# Altium integrated library NSC Audio.IntLib: 301 symbols (part 3 of 8)
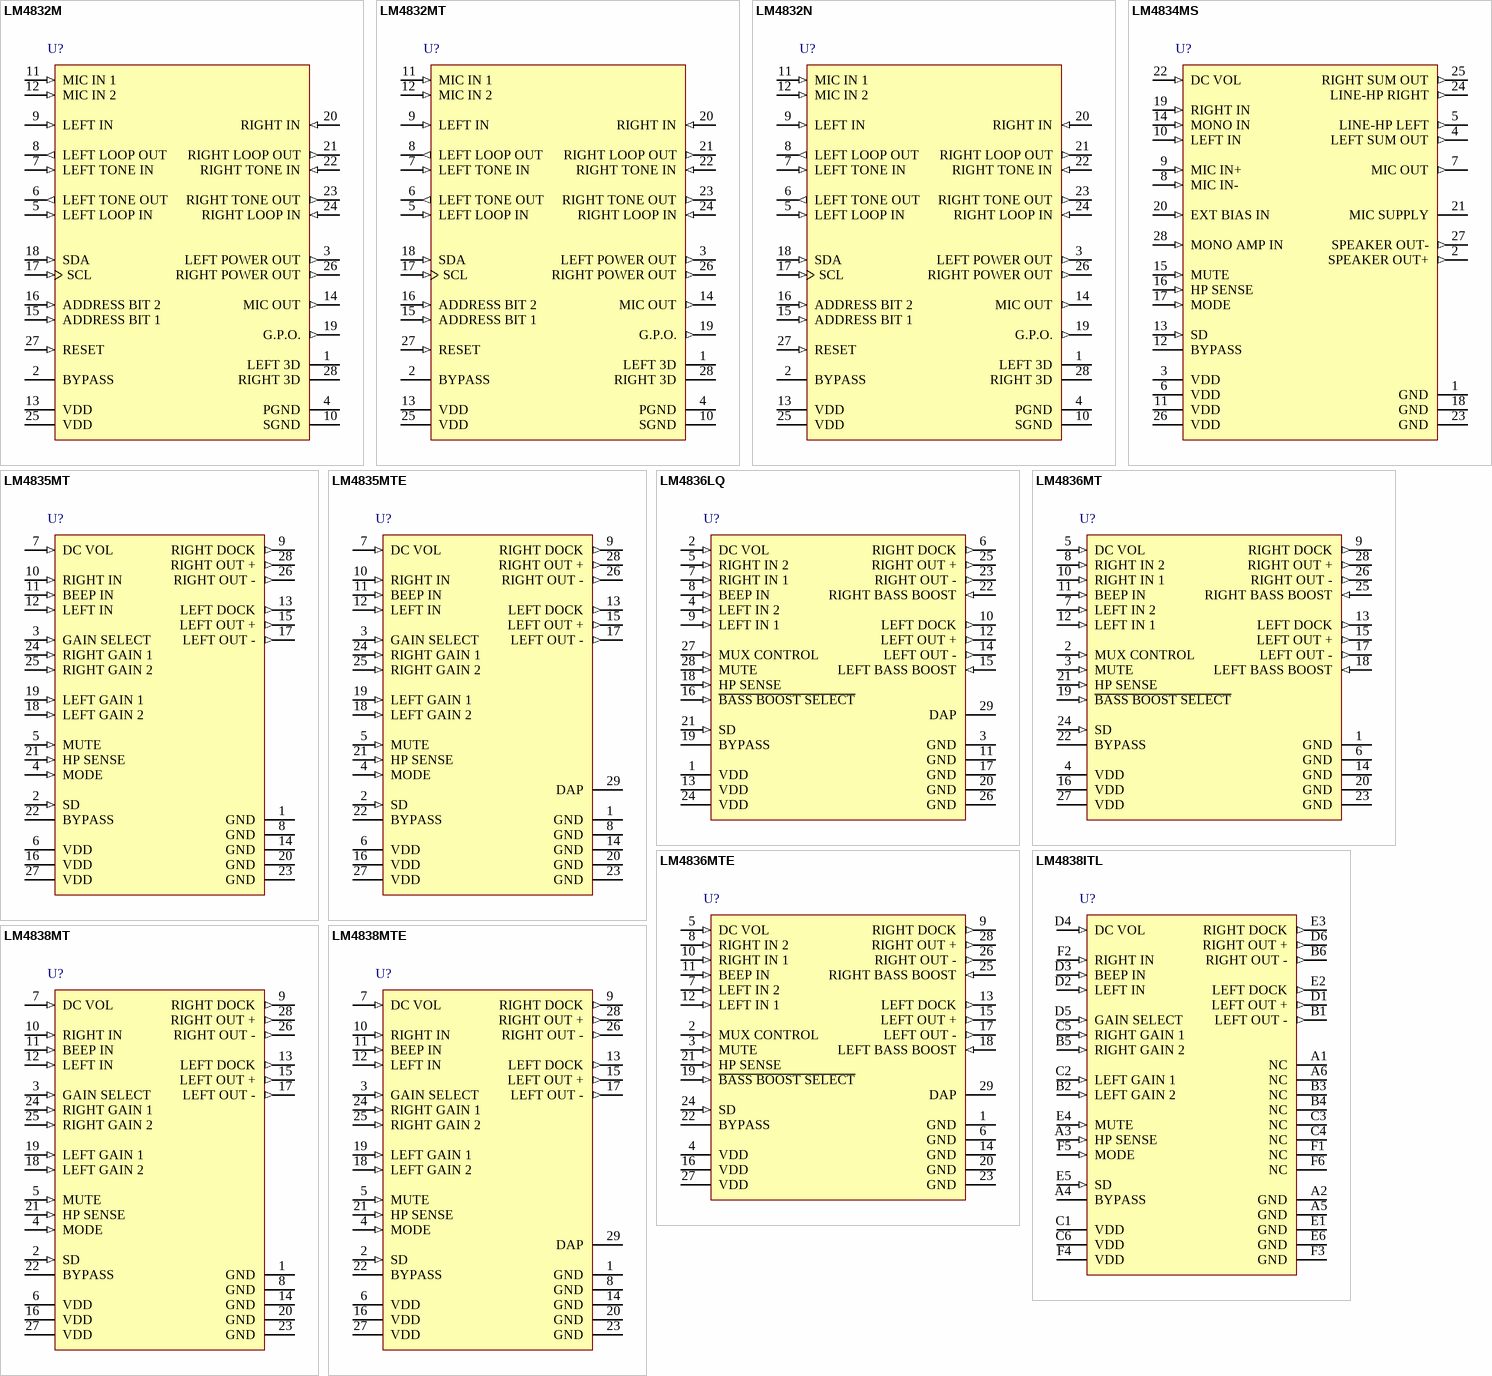
[diagram p14: symbols LM4832M to LM4838MTE]

## LM4834MS
designator U?
Boomer 1.75W Audio Power Amplifier with DC Volume Control and Microphone Preamp; PartNumber: LM4834MS; Manufacturer: National Semiconductor; CompType: Audio IC; PackageTopMarking: NSUZXYTT*LM4834MS; Published: 4-Dec-2008; DatasheetVersion: Aug-2000; PackageVersion: revB, Jan-2000; PackageReference: MSA28; PackageDescription: Molded SSOP, 5.3mm Body Width, 0.65mm Pitch, EIAJ, Type II, 28 Lead; RoHS: Y; PinCount: 28; DigiKeyPartNumber: LM4834MS-ND; Code_IPC: SOP65P780-28; ComponentLink1Description: LM4834 Datasheet; ComponentLink1URL: http://www.national.com/ds/LM/LM4834.pdf; ComponentLink2Description: LM4834 Web Page; ComponentLink2URL: http://www.national.com/pf/LM/LM4834.html; ComponentLink3Description: MSA28 Package Page; ComponentLink3URL: http://www.national.com/packaging/folders/msa28.html
footprint MSA28_N (SOP, 28-Leads, Body 10.2x5.3mm, Pitch 0.65mm, IPC Medium Density)
footprint MSA28_L (SOP, 28-Leads, Body 10.2x5.3mm, Pitch 0.65mm, IPC High Density)
footprint MSA28_M (SOP, 28-Leads, Body 10.2x5.3mm, Pitch 0.65mm, IPC Low Density)
pins: 1 GND (power), 2 SPEAKER OUT+ (out), 3 VDD (power), 4 LEFT SUM OUT (out), 5 LINE-HP LEFT (out), 6 VDD (power), 7 MIC OUT (out), 8 MIC IN- (in), 9 MIC IN+ (in), 10 LEFT IN (in), 11 VDD (power), 12 BYPASS, 13 SD (in), 14 MONO IN (in), 15 MUTE (in), 16 HP SENSE (in), 17 MODE (in), 18 GND (power), 19 RIGHT IN (in), 20 EXT BIAS IN (in), 21 MIC SUPPLY (power), 22 DC VOL (in), 23 GND (power), 24 LINE-HP RIGHT (out), 25 RIGHT SUM OUT (out), 26 VDD (power), 27 SPEAKER OUT- (out), 28 MONO AMP IN (in)

## LM4835MT
designator U?
Stereo 2W Audio Power Amplifiers with DC Volume Control and Selectable Gain; PartNumber: LM4835MT; Manufacturer: National Semiconductor; CompType: Audio IC; PackageTopMarking: NSUZXYTT*LM4835MT; Published: 4-Dec-2008; DatasheetVersion: Feb-2003; PackageVersion: revD, Jan-2005; PackageReference: MTC28; PackageDescription: Molded TSSOP, Jedec, 9.7 x 4.4 x 0.9mm Body, 28 Lead, 0.65mm Pitch; RoHS: Y; PinCount: 28; DigiKeyPartNumber: LM4835MT-ND; Code_JEDEC: MO-153-AE; ComponentLink1Description: LM4835 Datasheet; ComponentLink1URL: http://www.national.com/ds/LM/LM4835.pdf; ComponentLink2Description: LM4835 Web Page; ComponentLink2URL: http://www.national.com/pf/LM/LM4835.html; ComponentLink3Description: MTC28 Package Page; ComponentLink3URL: http://www.national.com/packaging/folders/mtc28.html
footprint MTC28_N (TSOP, 28-Leads, Body 9.7x4.4mm, Pitch 0.65mm, IPC Medium Density)
footprint MTC28_L (TSOP, 28-Leads, Body 9.7x4.4mm, Pitch 0.65mm, IPC High Density)
footprint MTC28_M (TSOP, 28-Leads, Body 9.7x4.4mm, Pitch 0.65mm, IPC Low Density)
pins: 1 GND (power), 2 SD (in), 3 GAIN SELECT (in), 4 MODE (in), 5 MUTE (in), 6 VDD (power), 7 DC VOL (in), 8 GND (power), 9 RIGHT DOCK (out), 10 RIGHT IN (in), 11 BEEP IN (in), 12 LEFT IN (in), 13 LEFT DOCK (out), 14 GND (power), 15 LEFT OUT + (out), 16 VDD (power), 17 LEFT OUT - (out), 18 LEFT GAIN 2 (in), 19 LEFT GAIN 1 (in), 20 GND (power), 21 HP SENSE (in), 22 BYPASS, 23 GND (power), 24 RIGHT GAIN 1 (in), 25 RIGHT GAIN 2 (in), 26 RIGHT OUT - (out), 27 VDD (power), 28 RIGHT OUT + (out)

## LM4835MTE
designator U?
Stereo 2W Audio Power Amplifiers with DC Volume Control and Selectable Gain; PartNumber: LM4835MTE; Manufacturer: National Semiconductor; CompType: Audio IC; PackageTopMarking: NSUZXYTT*LM4835MTE; Published: 4-Dec-2008; DatasheetVersion: Feb-2003; PackageVersion: revD, Oct-2003; PackageReference: MXA28A; PackageDescription: Molded TSSOP, Jedec, 9.7 x 4.4 x 0.9mm Body, 28 Lead, 0.65mm Pitch, Exposed Pad; RoHS: Y; PinCount: 28; DigiKeyPartNumber: LM4835MTE-ND; Code_JEDEC: MO-153-AET; ComponentLink1Description: LM4835 Datasheet; ComponentLink1URL: http://www.national.com/ds/LM/LM4835.pdf; ComponentLink2Description: LM4835 Web Page; ComponentLink2URL: http://www.national.com/pf/LM/LM4835.html; ComponentLink3Description: MXA28A Package Page; ComponentLink3URL: http://www.national.com/packaging/folders/mxa28a.html
footprint MXA28A_N (TSOP, 28-Leads, Body 9.7x4.4mm, Pitch 0.65mm, Exposed Pad, IPC Medium Density)
footprint MXA28A_L (TSOP, 28-Leads, Body 9.7x4.4mm, Pitch 0.65mm, Exposed Pad, IPC High Density)
footprint MXA28A_M (TSOP, 28-Leads, Body 9.7x4.4mm, Pitch 0.65mm, Exposed Pad, IPC Low Density)
pins: 1 GND (power), 2 SD (in), 3 GAIN SELECT (in), 4 MODE (in), 5 MUTE (in), 6 VDD (power), 7 DC VOL (in), 8 GND (power), 9 RIGHT DOCK (out), 10 RIGHT IN (in), 11 BEEP IN (in), 12 LEFT IN (in), 13 LEFT DOCK (out), 14 GND (power), 15 LEFT OUT + (out), 16 VDD (power), 17 LEFT OUT - (out), 18 LEFT GAIN 2 (in), 19 LEFT GAIN 1 (in), 20 GND (power), 21 HP SENSE (in), 22 BYPASS, 23 GND (power), 24 RIGHT GAIN 1 (in), 25 RIGHT GAIN 2 (in), 26 RIGHT OUT - (out), 27 VDD (power), 28 RIGHT OUT + (out), 29 DAP (power)

## LM4836LQ
designator U?
Stereo 2W Audio Power Amplifiers with DC Volume Control, Bass Boost, and Input Mux; PartNumber: LM4836LQ; Manufacturer: National Semiconductor; CompType: Audio IC; PackageTopMarking: NS*UZXYTT*L4836LQ; Published: 4-Dec-2008; DatasheetVersion: Jun-2002; PackageVersion: revB, Jul-2001; PackageReference: LQA28A; PackageDescription: LLP, Plastic, Quad, 5 x 5 x 0.75mm Body, 28 Lead, 0.5mm Pitch; RoHS: Y; PinCount: 28; DigiKeyPartNumber: LM4836LQCT-ND; Code_JEDEC: MO-220-WHHD-1; ComponentLink1Description: LM4836 Datasheet; ComponentLink1URL: http://www.national.com/ds/LM/LM4836.pdf; ComponentLink2Description: LM4836 Web Page; ComponentLink2URL: http://www.national.com/pf/LM/LM4836.html; ComponentLink3Description: LQA28A Package Page; ComponentLink3URL: http://www.national.com/packaging/folders/lqa28a.html
footprint LQA28A (PQFN, 28-Leads, Body 5x5mm, Pitch 0.5mm, NSC Recommended)
pins: 1 VDD (power), 2 DC VOL (in), 3 GND (power), 4 LEFT IN 2 (in), 5 RIGHT IN 2 (in), 6 RIGHT DOCK (out), 7 RIGHT IN 1 (in), 8 BEEP IN (in), 9 LEFT IN 1 (in), 10 LEFT DOCK (out), 11 GND (power), 12 LEFT OUT + (out), 13 VDD (power), 14 LEFT OUT - (out), 15 LEFT BASS BOOST (in), 16 ~{BASS BOOST SELECT} (in), 17 GND (power), 18 HP SENSE (in), 19 BYPASS, 20 GND (power), 21 SD (in), 22 RIGHT BASS BOOST (in), 23 RIGHT OUT - (out), 24 VDD (power), 25 RIGHT OUT + (out), 26 GND (power), 27 MUX CONTROL (in), 28 MUTE (in), 29 DAP (power)

## LM4836MT
designator U?
Stereo 2W Audio Power Amplifiers with DC Volume Control, Bass Boost, and Input Mux; PartNumber: LM4836MT; Manufacturer: National Semiconductor; CompType: Audio IC; PackageTopMarking: NSUZXYTT*LM4836MT; Published: 4-Dec-2008; DatasheetVersion: Jun-2002; PackageVersion: revD, Jan-2005; PackageReference: MTC28; PackageDescription: Molded TSSOP, Jedec, 9.7 x 4.4 x 0.9mm Body, 28 Lead, 0.65mm Pitch; RoHS: Y; PinCount: 28; DigiKeyPartNumber: LM4836MT-ND; Code_JEDEC: MO-153-AE; ComponentLink1Description: LM4836 Datasheet; ComponentLink1URL: http://www.national.com/ds/LM/LM4836.pdf; ComponentLink2Description: LM4836 Web Page; ComponentLink2URL: http://www.national.com/pf/LM/LM4836.html; ComponentLink3Description: MTC28 Package Page; ComponentLink3URL: http://www.national.com/packaging/folders/mtc28.html
footprint MTC28_N (TSOP, 28-Leads, Body 9.7x4.4mm, Pitch 0.65mm, IPC Medium Density)
footprint MTC28_L (TSOP, 28-Leads, Body 9.7x4.4mm, Pitch 0.65mm, IPC High Density)
footprint MTC28_M (TSOP, 28-Leads, Body 9.7x4.4mm, Pitch 0.65mm, IPC Low Density)
pins: 1 GND (power), 2 MUX CONTROL (in), 3 MUTE (in), 4 VDD (power), 5 DC VOL (in), 6 GND (power), 7 LEFT IN 2 (in), 8 RIGHT IN 2 (in), 9 RIGHT DOCK (out), 10 RIGHT IN 1 (in), 11 BEEP IN (in), 12 LEFT IN 1 (in), 13 LEFT DOCK (out), 14 GND (power), 15 LEFT OUT + (out), 16 VDD (power), 17 LEFT OUT - (out), 18 LEFT BASS BOOST (in), 19 ~{BASS BOOST SELECT} (in), 20 GND (power), 21 HP SENSE (in), 22 BYPASS, 23 GND (power), 24 SD (in), 25 RIGHT BASS BOOST (in), 26 RIGHT OUT - (out), 27 VDD (power), 28 RIGHT OUT + (out)

## LM4836MTE
designator U?
Stereo 2W Audio Power Amplifiers with DC Volume Control, Bass Boost, and Input Mux; PartNumber: LM4836MTE; Manufacturer: National Semiconductor; CompType: Audio IC; PackageTopMarking: NSUZXYTT*LM4836MTE; Published: 4-Dec-2008; DatasheetVersion: Jun-2002; PackageVersion: revD, Oct-2003; PackageReference: MXA28A; PackageDescription: Molded TSSOP, Jedec, 9.7 x 4.4 x 0.9mm Body, 28 Lead, 0.65mm Pitch, Exposed Pad; RoHS: O; PinCount: 28; DigiKeyPartNumber: LM4836MTE-ND; Code_JEDEC: MO-153-AET; ComponentLink1Description: LM4836 Datasheet; ComponentLink1URL: http://www.national.com/ds/LM/LM4836.pdf; ComponentLink2Description: LM4836 Web Page; ComponentLink2URL: http://www.national.com/pf/LM/LM4836.html; ComponentLink3Description: MXA28A Package Page; ComponentLink3URL: http://www.national.com/packaging/folders/mxa28a.html
footprint MXA28A_N (TSOP, 28-Leads, Body 9.7x4.4mm, Pitch 0.65mm, Exposed Pad, IPC Medium Density)
footprint MXA28A_L (TSOP, 28-Leads, Body 9.7x4.4mm, Pitch 0.65mm, Exposed Pad, IPC High Density)
footprint MXA28A_M (TSOP, 28-Leads, Body 9.7x4.4mm, Pitch 0.65mm, Exposed Pad, IPC Low Density)
pins: 1 GND (power), 2 MUX CONTROL (in), 3 MUTE (in), 4 VDD (power), 5 DC VOL (in), 6 GND (power), 7 LEFT IN 2 (in), 8 RIGHT IN 2 (in), 9 RIGHT DOCK (out), 10 RIGHT IN 1 (in), 11 BEEP IN (in), 12 LEFT IN 1 (in), 13 LEFT DOCK (out), 14 GND (power), 15 LEFT OUT + (out), 16 VDD (power), 17 LEFT OUT - (out), 18 LEFT BASS BOOST (in), 19 ~{BASS BOOST SELECT} (in), 20 GND (power), 21 HP SENSE (in), 22 BYPASS, 23 GND (power), 24 SD (in), 25 RIGHT BASS BOOST (in), 26 RIGHT OUT - (out), 27 VDD (power), 28 RIGHT OUT + (out), 29 DAP (power)

## LM4838ITL
designator U?
Stereo 2W Audio Power Amplifiers with DC Volume Control and Selectable Gain; PartNumber: LM4838ITL; Manufacturer: National Semiconductor; CompType: Audio IC; PackageTopMarking: XYTT*I GA4; Published: 4-Dec-2008; DatasheetVersion: Nov-2004; PackageVersion: revC, Dec-2003; PackageReference: TLA36AAA; PackageDescription: Thin Micro SMD, 36 Bump (Large), 0.5mm Pitch; RoHS: Y; PinCount: 36; DigiKeyPartNumber: LM4838ITLCT-ND; Code_JEDEC: MO-211-DK; ComponentLink1Description: LM4838 Datasheet; ComponentLink1URL: http://www.national.com/ds/LM/LM4838.pdf; ComponentLink2Description: LM4838 Web Page; ComponentLink2URL: http://www.national.com/pf/LM/LM4838.html; ComponentLink3Description: TLA36AAA Package Page; ComponentLink3URL: http://www.national.com/packaging/folders/tla36aaa.html
footprint TLA36AAA (Micro SMD, 36-Leads, Body 3x3mm, Pitch 0.5mm, NSC Recommended)
pins: A1 NC, A2 GND (power), A3 HP SENSE (in), A4 BYPASS, A5 GND (power), A6 NC, B1 LEFT OUT - (out), B2 LEFT GAIN 2 (in), B3 NC, B4 NC, B5 RIGHT GAIN 2 (in), B6 RIGHT OUT - (out), C1 VDD (power), C2 LEFT GAIN 1 (in), C3 NC, C4 NC, C5 RIGHT GAIN 1 (in), C6 VDD (power), D1 LEFT OUT + (out), D2 LEFT IN (in), D3 BEEP IN (in), D4 DC VOL (in), D5 GAIN SELECT (in), D6 RIGHT OUT + (out), E1 GND (power), E2 LEFT DOCK (out), E3 RIGHT DOCK (out), E4 MUTE (in), E5 SD (in), E6 GND (power), F1 NC, F2 RIGHT IN (in), F3 GND (power), F4 VDD (power), F5 MODE (in), F6 NC

## LM4838MT
designator U?
Stereo 2W Audio Power Amplifiers with DC Volume Control and Selectable Gain; PartNumber: LM4838MT; Manufacturer: National Semiconductor; CompType: Audio IC; PackageTopMarking: NSUZXYTT*LM4838MT; Published: 4-Dec-2008; DatasheetVersion: Nov-2004; PackageVersion: revD, Jan-2005; PackageReference: MTC28; PackageDescription: Molded TSSOP, Jedec, 9.7 x 4.4 x 0.9mm Body, 28 Lead, 0.65mm Pitch; RoHS: Y; PinCount: 28; DigiKeyPartNumber: LM4838MT-ND; Code_JEDEC: MO-153-AE; ComponentLink1Description: LM4838 Datasheet; ComponentLink1URL: http://www.national.com/ds/LM/LM4838.pdf; ComponentLink2Description: LM4838 Web Page; ComponentLink2URL: http://www.national.com/pf/LM/LM4838.html; ComponentLink3Description: MTC28 Package Page; ComponentLink3URL: http://www.national.com/packaging/folders/mtc28.html
footprint MTC28_N (TSOP, 28-Leads, Body 9.7x4.4mm, Pitch 0.65mm, IPC Medium Density)
footprint MTC28_L (TSOP, 28-Leads, Body 9.7x4.4mm, Pitch 0.65mm, IPC High Density)
footprint MTC28_M (TSOP, 28-Leads, Body 9.7x4.4mm, Pitch 0.65mm, IPC Low Density)
pins: 1 GND (power), 2 SD (in), 3 GAIN SELECT (in), 4 MODE (in), 5 MUTE (in), 6 VDD (power), 7 DC VOL (in), 8 GND (power), 9 RIGHT DOCK (out), 10 RIGHT IN (in), 11 BEEP IN (in), 12 LEFT IN (in), 13 LEFT DOCK (out), 14 GND (power), 15 LEFT OUT + (out), 16 VDD (power), 17 LEFT OUT - (out), 18 LEFT GAIN 2 (in), 19 LEFT GAIN 1 (in), 20 GND (power), 21 HP SENSE (in), 22 BYPASS, 23 GND (power), 24 RIGHT GAIN 1 (in), 25 RIGHT GAIN 2 (in), 26 RIGHT OUT - (out), 27 VDD (power), 28 RIGHT OUT + (out)

## LM4838MTE
designator U?
Stereo 2W Audio Power Amplifiers with DC Volume Control and Selectable Gain; PartNumber: LM4838MTE; Manufacturer: National Semiconductor; CompType: Audio IC; PackageTopMarking: NSUZXYTT*LM4838MTE; Published: 4-Dec-2008; DatasheetVersion: Nov-2004; PackageVersion: revD, Oct-2003; PackageReference: MXA28A; PackageDescription: Molded TSSOP, Jedec, 9.7 x 4.4 x 0.9mm Body, 28 Lead, 0.65mm Pitch, Exposed Pad; RoHS: Y; PinCount: 28; DigiKeyPartNumber: LM4838MTE-ND; Code_JEDEC: MO-153-AET; ComponentLink1Description: LM4838 Datasheet; ComponentLink1URL: http://www.national.com/ds/LM/LM4838.pdf; ComponentLink2Description: LM4838 Web Page; ComponentLink2URL: http://www.national.com/pf/LM/LM4838.html; ComponentLink3Description: MXA28A Package Page; ComponentLink3URL: http://www.national.com/packaging/folders/mxa28a.html
footprint MXA28A_N (TSOP, 28-Leads, Body 9.7x4.4mm, Pitch 0.65mm, Exposed Pad, IPC Medium Density)
footprint MXA28A_L (TSOP, 28-Leads, Body 9.7x4.4mm, Pitch 0.65mm, Exposed Pad, IPC High Density)
footprint MXA28A_M (TSOP, 28-Leads, Body 9.7x4.4mm, Pitch 0.65mm, Exposed Pad, IPC Low Density)
pins: 1 GND (power), 2 SD (in), 3 GAIN SELECT (in), 4 MODE (in), 5 MUTE (in), 6 VDD (power), 7 DC VOL (in), 8 GND (power), 9 RIGHT DOCK (out), 10 RIGHT IN (in), 11 BEEP IN (in), 12 LEFT IN (in), 13 LEFT DOCK (out), 14 GND (power), 15 LEFT OUT + (out), 16 VDD (power), 17 LEFT OUT - (out), 18 LEFT GAIN 2 (in), 19 LEFT GAIN 1 (in), 20 GND (power), 21 HP SENSE (in), 22 BYPASS, 23 GND (power), 24 RIGHT GAIN 1 (in), 25 RIGHT GAIN 2 (in), 26 RIGHT OUT - (out), 27 VDD (power), 28 RIGHT OUT + (out), 29 DAP (power)

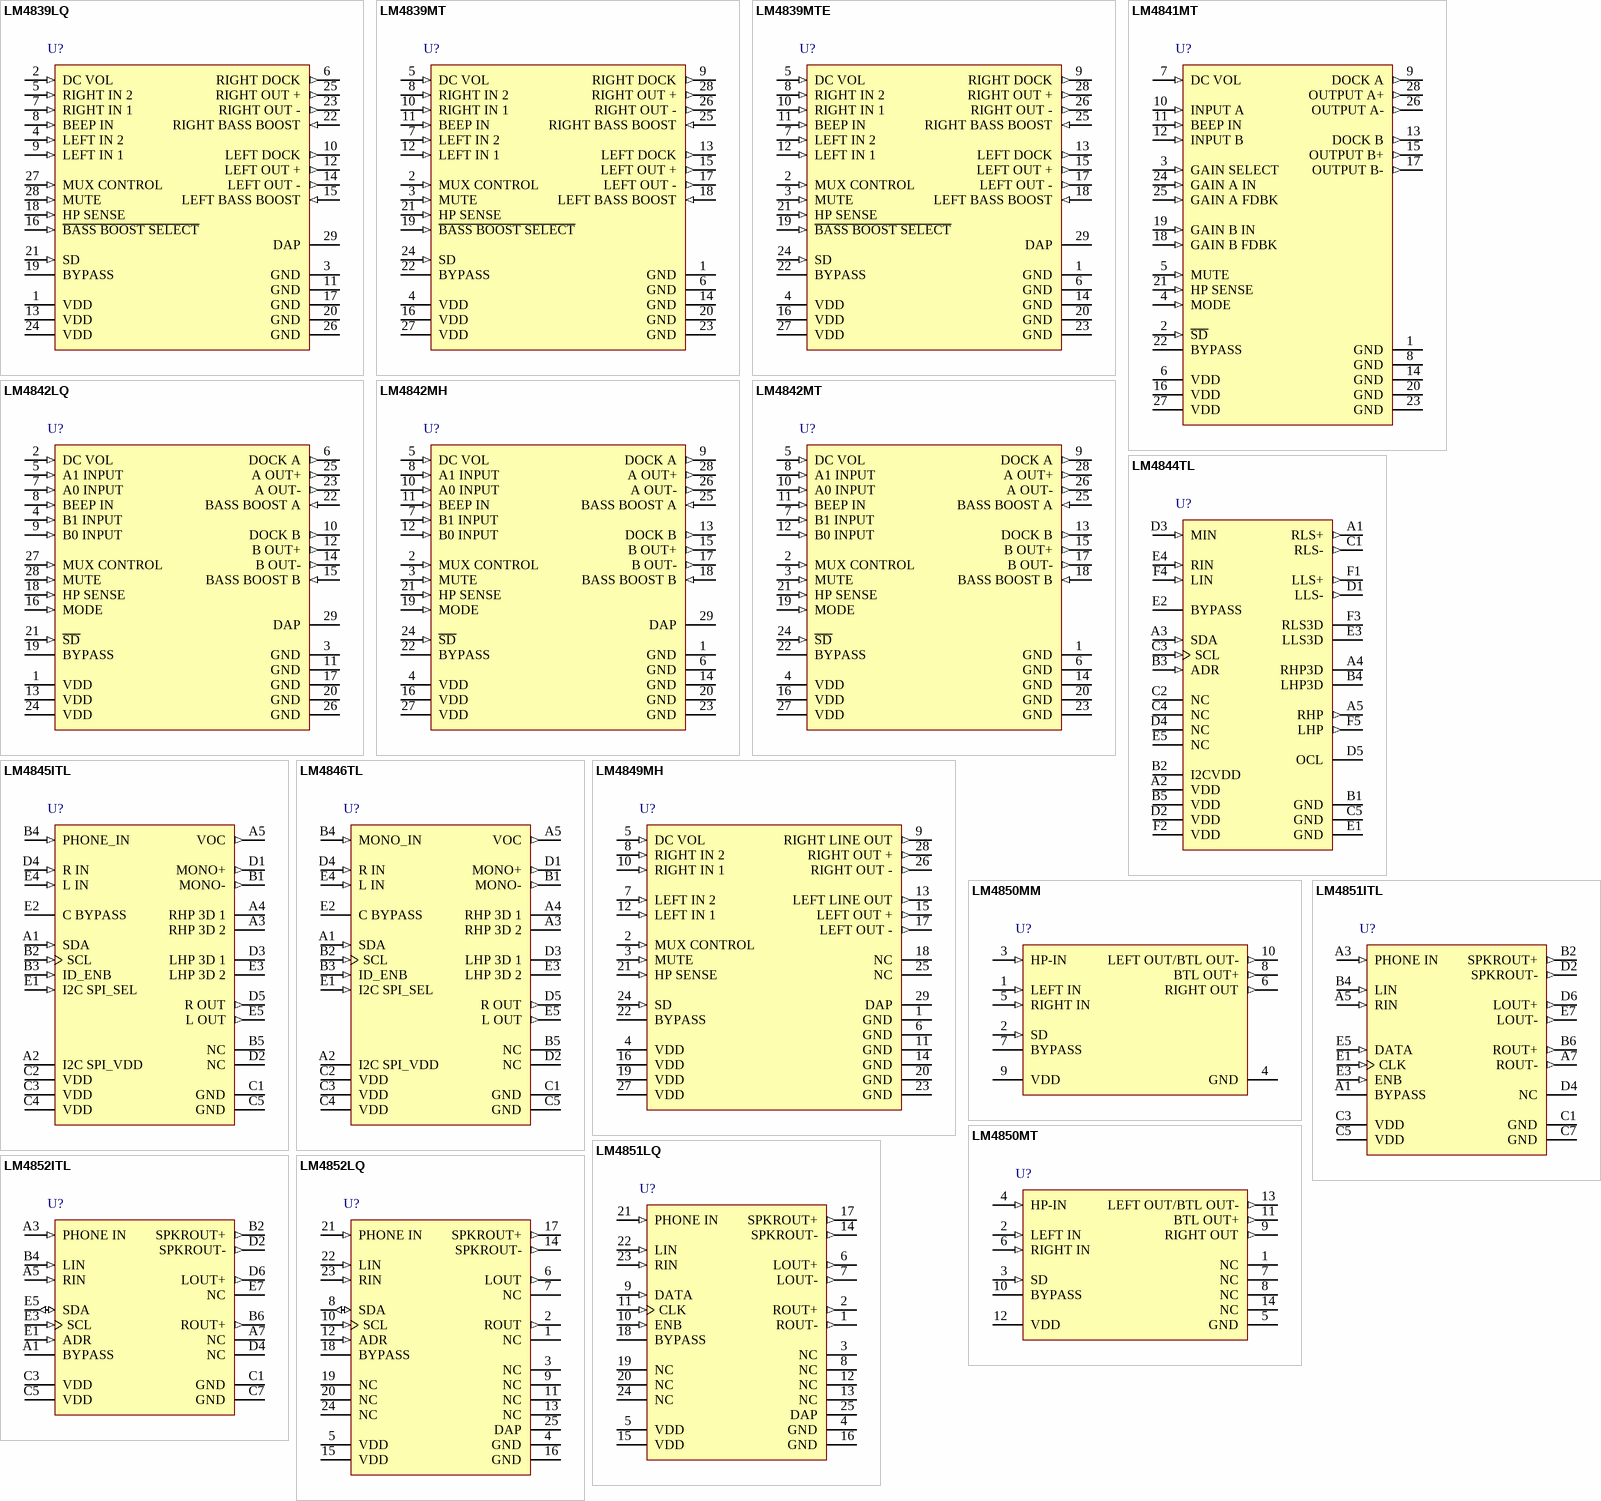
[diagram p4: symbols LM4839LQ to LM4852LQ]

## LM4839LQ
designator U?
Stereo 2W Audio Power Amplifiers with DC Volume Control, Bass Boost, and Input Mux; PartNumber: LM4839LQ; Manufacturer: National Semiconductor; CompType: Audio IC; PackageTopMarking: NS*UZXYTT*L4839LQ; Published: 4-Dec-2008; DatasheetVersion: Apr-2002; PackageVersion: revB, Jul-2001; PackageReference: LQA28A; PackageDescription: LLP, Plastic, Quad, 5 x 5 x 0.75mm Body, 28 Lead, 0.5mm Pitch; RoHS: Y; PinCount: 28; DigiKeyPartNumber: LM4839LQCT-ND; Code_JEDEC: MO-220-WHHD-1; ComponentLink1Description: LM4839 Datasheet; ComponentLink1URL: http://www.national.com/ds/LM/LM4839.pdf; ComponentLink2Description: LM4839 Web Page; ComponentLink2URL: http://www.national.com/pf/LM/LM4839.html; ComponentLink3Description: LQA28A Package Page; ComponentLink3URL: http://www.national.com/packaging/folders/lqa28a.html
footprint LQA28A (PQFN, 28-Leads, Body 5x5mm, Pitch 0.5mm, NSC Recommended)
pins: 1 VDD (power), 2 DC VOL (in), 3 GND (power), 4 LEFT IN 2 (in), 5 RIGHT IN 2 (in), 6 RIGHT DOCK (out), 7 RIGHT IN 1 (in), 8 BEEP IN (in), 9 LEFT IN 1 (in), 10 LEFT DOCK (out), 11 GND (power), 12 LEFT OUT + (out), 13 VDD (power), 14 LEFT OUT - (out), 15 LEFT BASS BOOST (in), 16 ~{BASS BOOST SELECT} (in), 17 GND (power), 18 HP SENSE (in), 19 BYPASS, 20 GND (power), 21 SD (in), 22 RIGHT BASS BOOST (in), 23 RIGHT OUT - (out), 24 VDD (power), 25 RIGHT OUT + (out), 26 GND (power), 27 MUX CONTROL (in), 28 MUTE (in), 29 DAP (power)

## LM4839MT
designator U?
Stereo 2W Audio Power Amplifiers with DC Volume Control, Bass Boost, and Input Mux; PartNumber: LM4839MT; Manufacturer: National Semiconductor; CompType: Audio IC; PackageTopMarking: NSUZXYTT*LM4839MT; Published: 4-Dec-2008; DatasheetVersion: Apr-2002; PackageVersion: revD, Jan-2005; PackageReference: MTC28; PackageDescription: Molded TSSOP, Jedec, 9.7 x 4.4 x 0.9mm Body, 28 Lead, 0.65mm Pitch; RoHS: Y; PinCount: 28; DigiKeyPartNumber: LM4839MT-ND; Code_JEDEC: MO-153-AE; ComponentLink1Description: LM4839 Datasheet; ComponentLink1URL: http://www.national.com/ds/LM/LM4839.pdf; ComponentLink2Description: LM4839 Web Page; ComponentLink2URL: http://www.national.com/pf/LM/LM4839.html; ComponentLink3Description: MTC28 Package Page; ComponentLink3URL: http://www.national.com/packaging/folders/mtc28.html
footprint MTC28_N (TSOP, 28-Leads, Body 9.7x4.4mm, Pitch 0.65mm, IPC Medium Density)
footprint MTC28_L (TSOP, 28-Leads, Body 9.7x4.4mm, Pitch 0.65mm, IPC High Density)
footprint MTC28_M (TSOP, 28-Leads, Body 9.7x4.4mm, Pitch 0.65mm, IPC Low Density)
pins: 1 GND (power), 2 MUX CONTROL (in), 3 MUTE (in), 4 VDD (power), 5 DC VOL (in), 6 GND (power), 7 LEFT IN 2 (in), 8 RIGHT IN 2 (in), 9 RIGHT DOCK (out), 10 RIGHT IN 1 (in), 11 BEEP IN (in), 12 LEFT IN 1 (in), 13 LEFT DOCK (out), 14 GND (power), 15 LEFT OUT + (out), 16 VDD (power), 17 LEFT OUT - (out), 18 LEFT BASS BOOST (in), 19 ~{BASS BOOST SELECT} (in), 20 GND (power), 21 HP SENSE (in), 22 BYPASS, 23 GND (power), 24 SD (in), 25 RIGHT BASS BOOST (in), 26 RIGHT OUT - (out), 27 VDD (power), 28 RIGHT OUT + (out)

## LM4839MTE
designator U?
Stereo 2W Audio Power Amplifiers with DC Volume Control, Bass Boost, and Input Mux; PartNumber: LM4839MTE; Manufacturer: National Semiconductor; CompType: Audio IC; PackageTopMarking: NSUZXYTT*LM4839MTE; Published: 4-Dec-2008; DatasheetVersion: Apr-2002; PackageVersion: revD, Oct-2003; PackageReference: MXA28A; PackageDescription: Molded TSSOP, Jedec, 9.7 x 4.4 x 0.9mm Body, 28 Lead, 0.65mm Pitch, Exposed Pad; RoHS: Y; PinCount: 28; DigiKeyPartNumber: LM4839MTE-ND; Code_JEDEC: MO-153-AET; ComponentLink1Description: LM4839 Datasheet; ComponentLink1URL: http://www.national.com/ds/LM/LM4839.pdf; ComponentLink2Description: LM4839 Web Page; ComponentLink2URL: http://www.national.com/pf/LM/LM4839.html; ComponentLink3Description: MXA28A Package Page; ComponentLink3URL: http://www.national.com/packaging/folders/mxa28a.html
footprint MXA28A_N (TSOP, 28-Leads, Body 9.7x4.4mm, Pitch 0.65mm, Exposed Pad, IPC Medium Density)
footprint MXA28A_L (TSOP, 28-Leads, Body 9.7x4.4mm, Pitch 0.65mm, Exposed Pad, IPC High Density)
footprint MXA28A_M (TSOP, 28-Leads, Body 9.7x4.4mm, Pitch 0.65mm, Exposed Pad, IPC Low Density)
pins: 1 GND (power), 2 MUX CONTROL (in), 3 MUTE (in), 4 VDD (power), 5 DC VOL (in), 6 GND (power), 7 LEFT IN 2 (in), 8 RIGHT IN 2 (in), 9 RIGHT DOCK (out), 10 RIGHT IN 1 (in), 11 BEEP IN (in), 12 LEFT IN 1 (in), 13 LEFT DOCK (out), 14 GND (power), 15 LEFT OUT + (out), 16 VDD (power), 17 LEFT OUT - (out), 18 LEFT BASS BOOST (in), 19 ~{BASS BOOST SELECT} (in), 20 GND (power), 21 HP SENSE (in), 22 BYPASS, 23 GND (power), 24 SD (in), 25 RIGHT BASS BOOST (in), 26 RIGHT OUT - (out), 27 VDD (power), 28 RIGHT OUT + (out), 29 DAP (power)

## LM4841MT
designator U?
Stereo 2W Amplifiers with DC Volume Control, Transient Free Outputs, and Cap-less Headphone Drive; PartNumber: LM4841MT; Manufacturer: National Semiconductor; CompType: Audio IC; PackageTopMarking: NSUZXYTT*LM4841MT; Published: 4-Dec-2008; DatasheetVersion: Aug-2002; PackageVersion: revD, Jan-2005; PackageReference: MTC28; PackageDescription: Molded TSSOP, Jedec, 9.7 x 4.4 x 0.9mm Body, 28 Lead, 0.65mm Pitch; RoHS: Y; PinCount: 28; DigiKeyPartNumber: LM4841MT-ND; Code_JEDEC: MO-153-AE; ComponentLink1Description: LM4841 Datasheet; ComponentLink1URL: http://www.national.com/ds/LM/LM4841.pdf; ComponentLink2Description: LM4841 Web Page; ComponentLink2URL: http://www.national.com/pf/LM/LM4841.html; ComponentLink3Description: MTC28 Package Page; ComponentLink3URL: http://www.national.com/packaging/folders/mtc28.html
footprint MTC28_N (TSOP, 28-Leads, Body 9.7x4.4mm, Pitch 0.65mm, IPC Medium Density)
footprint MTC28_L (TSOP, 28-Leads, Body 9.7x4.4mm, Pitch 0.65mm, IPC High Density)
footprint MTC28_M (TSOP, 28-Leads, Body 9.7x4.4mm, Pitch 0.65mm, IPC Low Density)
pins: 1 GND (power), 2 ~{SD} (in), 3 GAIN SELECT (in), 4 MODE (in), 5 MUTE (in), 6 VDD (power), 7 DC VOL (in), 8 GND (power), 9 DOCK A (out), 10 INPUT A (in), 11 BEEP IN (in), 12 INPUT B (in), 13 DOCK B (out), 14 GND (power), 15 OUTPUT B+ (out), 16 VDD (power), 17 OUTPUT B- (out), 18 GAIN B FDBK (in), 19 GAIN B IN (in), 20 GND (power), 21 HP SENSE (in), 22 BYPASS, 23 GND (power), 24 GAIN A IN (in), 25 GAIN A FDBK (in), 26 OUTPUT A- (out), 27 VDD (power), 28 OUTPUT A+ (out)

## LM4842LQ
designator U?
Stereo 2W Amplifiers with DC Volume Control, Input MUX, Transient-Free Outputs, and Cap-less Headphone Drive; PartNumber: LM4842LQ; Manufacturer: National Semiconductor; CompType: Audio IC; PackageTopMarking: NS*UZXYTT*L4842LQ; Published: 4-Dec-2008; DatasheetVersion: Oct-2006; PackageVersion: revB, Jul-2001; PackageReference: LQA28A; PackageDescription: LLP, Plastic, Quad, 5 x 5 x 0.75mm Body, 28 Lead, 0.5mm Pitch; RoHS: Y; PinCount: 28; DigiKeyPartNumber: LM4842LQCT-ND; Code_JEDEC: MO-220-WHHD-1; ComponentLink1Description: LM4842 Datasheet; ComponentLink1URL: http://www.national.com/ds/LM/LM4842.pdf; ComponentLink2Description: LM4842 Web Page; ComponentLink2URL: http://www.national.com/pf/LM/LM4842.html; ComponentLink3Description: LQA28A Package Page; ComponentLink3URL: http://www.national.com/packaging/folders/lqa28a.html
footprint LQA28A (PQFN, 28-Leads, Body 5x5mm, Pitch 0.5mm, NSC Recommended)
pins: 1 VDD (power), 2 DC VOL (in), 3 GND (power), 4 B1 INPUT (in), 5 A1 INPUT (in), 6 DOCK A (out), 7 A0 INPUT (in), 8 BEEP IN (in), 9 B0 INPUT (in), 10 DOCK B (out), 11 GND (power), 12 B OUT+ (out), 13 VDD (power), 14 B OUT- (out), 15 BASS BOOST B (in), 16 MODE (in), 17 GND (power), 18 HP SENSE (in), 19 BYPASS, 20 GND (power), 21 ~{SD} (in), 22 BASS BOOST A (in), 23 A OUT- (out), 24 VDD (power), 25 A OUT+ (out), 26 GND (power), 27 MUX CONTROL (in), 28 MUTE (in), 29 DAP (power)

## LM4842MH
designator U?
Stereo 2W Amplifiers with DC Volume Control, Input MUX, Transient-Free Outputs, and Cap-less Headphone Drive; PartNumber: LM4842MH; Manufacturer: National Semiconductor; CompType: Audio IC; PackageTopMarking: NSUZXYTT*LM4842MH; Published: 4-Dec-2008; DatasheetVersion: Oct-2006; PackageVersion: revD, Oct-2003; PackageReference: MXA28A; PackageDescription: Molded TSSOP, Jedec, 9.7 x 4.4 x 0.9mm Body, 28 Lead, 0.65mm Pitch, Exposed Pad; RoHS: Y; PinCount: 28; DigiKeyPartNumber: LM4842MH-ND; Code_JEDEC: MO-153-AET; ComponentLink1Description: LM4842 Datasheet; ComponentLink1URL: http://www.national.com/ds/LM/LM4842.pdf; ComponentLink2Description: LM4842 Web Page; ComponentLink2URL: http://www.national.com/pf/LM/LM4842.html; ComponentLink3Description: MXA28A Package Page; ComponentLink3URL: http://www.national.com/packaging/folders/mxa28a.html
footprint MXA28A_N (TSOP, 28-Leads, Body 9.7x4.4mm, Pitch 0.65mm, Exposed Pad, IPC Medium Density)
footprint MXA28A_L (TSOP, 28-Leads, Body 9.7x4.4mm, Pitch 0.65mm, Exposed Pad, IPC High Density)
footprint MXA28A_M (TSOP, 28-Leads, Body 9.7x4.4mm, Pitch 0.65mm, Exposed Pad, IPC Low Density)
pins: 1 GND (power), 2 MUX CONTROL (in), 3 MUTE (in), 4 VDD (power), 5 DC VOL (in), 6 GND (power), 7 B1 INPUT (in), 8 A1 INPUT (in), 9 DOCK A (out), 10 A0 INPUT (in), 11 BEEP IN (in), 12 B0 INPUT (in), 13 DOCK B (out), 14 GND (power), 15 B OUT+ (out), 16 VDD (power), 17 B OUT- (out), 18 BASS BOOST B (in), 19 MODE (in), 20 GND (power), 21 HP SENSE (in), 22 BYPASS, 23 GND (power), 24 ~{SD} (in), 25 BASS BOOST A (in), 26 A OUT- (out), 27 VDD (power), 28 A OUT+ (out), 29 DAP (power)

## LM4842MT
designator U?
Stereo 2W Amplifiers with DC Volume Control, Input MUX, Transient-Free Outputs, and Cap-less Headphone Drive; PartNumber: LM4842MT; Manufacturer: National Semiconductor; CompType: Audio IC; PackageTopMarking: NSUZXYTT*LM4842MT; Published: 4-Dec-2008; DatasheetVersion: Oct-2006; PackageVersion: revD, Jan-2005; PackageReference: MTC28; PackageDescription: Molded TSSOP, Jedec, 9.7 x 4.4 x 0.9mm Body, 28 Lead, 0.65mm Pitch; RoHS: Y; PinCount: 28; DigiKeyPartNumber: LM4842MT-ND; Code_JEDEC: MO-153-AE; ComponentLink1Description: LM4842 Datasheet; ComponentLink1URL: http://www.national.com/ds/LM/LM4842.pdf; ComponentLink2Description: LM4842 Web Page; ComponentLink2URL: http://www.national.com/pf/LM/LM4842.html; ComponentLink3Description: MTC28 Package Page; ComponentLink3URL: http://www.national.com/packaging/folders/mtc28.html
footprint MTC28_N (TSOP, 28-Leads, Body 9.7x4.4mm, Pitch 0.65mm, IPC Medium Density)
footprint MTC28_L (TSOP, 28-Leads, Body 9.7x4.4mm, Pitch 0.65mm, IPC High Density)
footprint MTC28_M (TSOP, 28-Leads, Body 9.7x4.4mm, Pitch 0.65mm, IPC Low Density)
pins: 1 GND (power), 2 MUX CONTROL (in), 3 MUTE (in), 4 VDD (power), 5 DC VOL (in), 6 GND (power), 7 B1 INPUT (in), 8 A1 INPUT (in), 9 DOCK A (out), 10 A0 INPUT (in), 11 BEEP IN (in), 12 B0 INPUT (in), 13 DOCK B (out), 14 GND (power), 15 B OUT+ (out), 16 VDD (power), 17 B OUT- (out), 18 BASS BOOST B (in), 19 MODE (in), 20 GND (power), 21 HP SENSE (in), 22 BYPASS, 23 GND (power), 24 ~{SD} (in), 25 BASS BOOST A (in), 26 A OUT- (out), 27 VDD (power), 28 A OUT+ (out)

## LM4844TL
designator U?
Stereo 1.2W Audio Sub-System with 3D Enhancement; PartNumber: LM4844TL; Manufacturer: National Semiconductor; CompType: Audio IC; PackageTopMarking: XYTT*I GF3; Published: 4-Dec-2008; DatasheetVersion: Aug-2007; PackageVersion: revC, Dec-2003; PackageReference: TLA30CZA; PackageDescription: Thin Micro SMD, 30 Bump (Large), 0.5mm Pitch; RoHS: Y; PinCount: 30; DigiKeyPartNumber: LM4844TLCT-ND; Code_JEDEC: MO-211-DJ; ComponentLink1Description: LM4844 Datasheet; ComponentLink1URL: http://www.national.com/ds/LM/LM4844.pdf; ComponentLink2Description: LM4844 Web Page; ComponentLink2URL: http://www.national.com/pf/LM/LM4844.html; ComponentLink3Description: TLA30CZA Package Page; ComponentLink3URL: http://www.national.com/packaging/folders/tla30cza.html
footprint TLA30CZA (Micro SMD, 30-Leads, Body 2.95x2.55mm, Pitch 0.5mm, NSC Recommended)
pins: A1 RLS+ (out), A2 VDD (power), A3 SDA (in), A4 RHP3D, A5 RHP (out), B1 GND (power), B2 I2CVDD (power), B3 ADR (in), B4 LHP3D, B5 VDD (power), C1 RLS- (out), C2 NC, C3 SCL (in), C4 NC, C5 GND (power), D1 LLS- (out), D2 VDD (power), D3 MIN (in), D4 NC, D5 OCL (power), E1 GND (power), E2 BYPASS, E3 LLS3D, E4 RIN (in), E5 NC, F1 LLS+ (out), F2 VDD (power), F3 RLS3D, F4 LIN (in), F5 LHP (out)

## LM4845ITL
designator U?
Output Capacitor-less Audio Subsystem with Programmable National 3D; PartNumber: LM4845ITL; Manufacturer: National Semiconductor; CompType: Audio IC; PackageTopMarking: XYTT*I GE5; Published: 4-Dec-2008; DatasheetVersion: Jul-2006; PackageVersion: revD, Dec-2003; PackageReference: TLA25CBA; PackageDescription: Thin Micro SMD, 25 Bump (Large), 0.5mm Pitch; RoHS: Y; PinCount: 25; DigiKeyPartNumber: LM4845ITLCT-ND; Code_JEDEC: MO-211-DH; ComponentLink1Description: LM4845 Datasheet; ComponentLink1URL: http://www.national.com/ds/LM/LM4845.pdf; ComponentLink2Description: LM4845 Web Page; ComponentLink2URL: http://www.national.com/pf/LM/LM4845.html; ComponentLink3Description: TLA25CBA Package Page; ComponentLink3URL: http://www.national.com/packaging/folders/tla25cba.html
footprint TLA25CBA (Micro SMD, 25-Leads, Body 2.52x2.55mm, Pitch 0.5mm, NSC Recommended)
pins: A1 SDA (in), A2 I2C SPI_VDD (power), A3 RHP 3D 2, A4 RHP 3D 1, A5 VOC (out), B1 MONO- (out), B2 SCL (in), B3 ID_ENB (in), B4 PHONE_IN (in), B5 NC, C1 GND (power), C2 VDD (power), C3 VDD (power), C4 VDD (power), C5 GND (power), D1 MONO+ (out), D2 NC, D3 LHP 3D 1, D4 R IN (in), D5 R OUT (out), E1 I2C SPI_SEL (in), E2 C BYPASS, E3 LHP 3D 2, E4 L IN (in), E5 L OUT (out)

## LM4846TL
designator U?
Output Capacitor-less Audio Subsystem with Programmable National 3D; PartNumber: LM4846TL; Manufacturer: National Semiconductor; CompType: Audio IC; PackageTopMarking: XYTT*I GG5; Published: 4-Dec-2008; DatasheetVersion: Jul-2006; PackageVersion: revD, Dec-2003; PackageReference: TLA25CBA; PackageDescription: Thin Micro SMD, 25 Bump (Large), 0.5mm Pitch; RoHS: Y; PinCount: 25; DigiKeyPartNumber: LM4846TLCT-ND; Code_JEDEC: MO-211-DH; ComponentLink1Description: LM4846 Datasheet; ComponentLink1URL: http://www.national.com/ds/LM/LM4846.pdf; ComponentLink2Description: LM4846 Web Page; ComponentLink2URL: http://www.national.com/pf/LM/LM4846.html; ComponentLink3Description: TLA25CBA Package Page; ComponentLink3URL: http://www.national.com/packaging/folders/tla25cba.html
footprint TLA25CBA (Micro SMD, 25-Leads, Body 2.52x2.55mm, Pitch 0.5mm, NSC Recommended)
pins: A1 SDA (in), A2 I2C SPI_VDD (power), A3 RHP 3D 2, A4 RHP 3D 1, A5 VOC (out), B1 MONO- (out), B2 SCL (in), B3 ID_ENB (in), B4 MONO_IN (in), B5 NC, C1 GND (power), C2 VDD (power), C3 VDD (power), C4 VDD (power), C5 GND (power), D1 MONO+ (out), D2 NC, D3 LHP 3D 1, D4 R IN (in), D5 R OUT (out), E1 I2C SPI_SEL (in), E2 C BYPASS, E3 LHP 3D 2, E4 L IN (in), E5 L OUT (out)

## LM4849MH
designator U?
Stereo 2W Audio Power Amplifiers with DC Volume Control and Input Mux; PartNumber: LM4849MH; Manufacturer: National Semiconductor; CompType: Audio IC; PackageTopMarking: NSUZXYTT*LM4849MH; Published: 4-Dec-2008; DatasheetVersion: Aug-2003; PackageVersion: revD, Oct-2003; PackageReference: MXA28A; PackageDescription: Molded TSSOP, Jedec, 9.7 x 4.4 x 0.9mm Body, 28 Lead, 0.65mm Pitch, Exposed Pad; RoHS: Y; PinCount: 28; DigiKeyPartNumber: LM4849MH-ND; Code_JEDEC: MO-153-AET; ComponentLink1Description: LM4849 Datasheet; ComponentLink1URL: http://www.national.com/ds/LM/LM4849.pdf; ComponentLink2Description: LM4849 Web Page; ComponentLink2URL: http://www.national.com/pf/LM/LM4849.html; ComponentLink3Description: MXA28A Package Page; ComponentLink3URL: http://www.national.com/packaging/folders/mxa28a.html
footprint MXA28A_N (TSOP, 28-Leads, Body 9.7x4.4mm, Pitch 0.65mm, Exposed Pad, IPC Medium Density)
footprint MXA28A_L (TSOP, 28-Leads, Body 9.7x4.4mm, Pitch 0.65mm, Exposed Pad, IPC High Density)
footprint MXA28A_M (TSOP, 28-Leads, Body 9.7x4.4mm, Pitch 0.65mm, Exposed Pad, IPC Low Density)
pins: 1 GND (power), 2 MUX CONTROL (in), 3 MUTE (in), 4 VDD (power), 5 DC VOL (in), 6 GND (power), 7 LEFT IN 2 (in), 8 RIGHT IN 2 (in), 9 RIGHT LINE OUT (out), 10 RIGHT IN 1 (in), 11 GND (power), 12 LEFT IN 1 (in), 13 LEFT LINE OUT (out), 14 GND (power), 15 LEFT OUT + (out), 16 VDD (power), 17 LEFT OUT - (out), 18 NC, 19 VDD (power), 20 GND (power), 21 HP SENSE (in), 22 BYPASS, 23 GND (power), 24 SD (in), 25 NC, 26 RIGHT OUT - (out), 27 VDD (power), 28 RIGHT OUT + (out), 29 DAP (power)

## LM4850MM
designator U?
Mono 1.5 W / Stereo 300 mW Power Amplifier; PartNumber: LM4850MM; Manufacturer: National Semiconductor; CompType: Audio IC; PackageTopMarking: ZXTT*G50; Published: 4-Dec-2008; DatasheetVersion: Jul-2002; PackageVersion: revB, Jul-2003; PackageReference: MUB10A; PackageDescription: Mini-SO, Molded, .118 x .118 x .034in Body, 10 Lead, .0197in Pitch; RoHS: Y; PinCount: 10; DigiKeyPartNumber: LM4850MM-ND; Code_JEDEC: MO-187-BA; ComponentLink1Description: LM4850 Datasheet; ComponentLink1URL: http://www.national.com/ds/LM/LM4850.pdf; ComponentLink2Description: LM4850 Web Page; ComponentLink2URL: http://www.national.com/pf/LM/LM4850.html; ComponentLink3Description: MUB10A Package Page; ComponentLink3URL: http://www.national.com/packaging/folders/mub10a.html
footprint MUB10A_N (TSSOP, 10-Leads, Body 3x3mm, Pitch 0.5mm, IPC Medium Density)
footprint MUB10A_L (TSSOP, 10-Leads, Body 3x3mm, Pitch 0.5mm, IPC High Density)
footprint MUB10A_M (TSSOP, 10-Leads, Body 3x3mm, Pitch 0.5mm, IPC Low Density)
pins: 1 LEFT IN (in), 2 SD (in), 3 HP-IN (in), 4 GND (power), 5 RIGHT IN (in), 6 RIGHT OUT (out), 7 BYPASS, 8 BTL OUT+ (out), 9 VDD (power), 10 LEFT OUT/BTL OUT- (out)

## LM4850MT
designator U?
Mono 1.5 W / Stereo 300 mW Power Amplifier; PartNumber: LM4850MT; Manufacturer: National Semiconductor; CompType: Audio IC; PackageTopMarking: NSZXYTT*LM4850*MT; Published: 4-Dec-2008; DatasheetVersion: Jul-2002; PackageVersion: revD, Jun-2003; PackageReference: MTC14; PackageDescription: Molded TSSOP, JEDEC, 5 x 4.4 x 0.9mm Body, 14 Lead, 0.65mm Pitch; RoHS: Y; PinCount: 14; DigiKeyPartNumber: LM4850MT-ND; Code_JEDEC: MO-153-AB-1; ComponentLink1Description: LM4850 Datasheet; ComponentLink1URL: http://www.national.com/ds/LM/LM4850.pdf; ComponentLink2Description: LM4850 Web Page; ComponentLink2URL: http://www.national.com/pf/LM/LM4850.html; ComponentLink3Description: MTC14 Package Page; ComponentLink3URL: http://www.national.com/packaging/folders/mtc14.html
footprint MTC14_N (TSOP, 14-Leads, Body 5x4.4mm, Pitch 0.65mm, IPC Medium Density)
footprint MTC14_L (TSOP, 14-Leads, Body 5x4.4mm, Pitch 0.65mm, IPC High Density)
footprint MTC14_M (TSOP, 14-Leads, Body 5x4.4mm, Pitch 0.65mm, IPC Low Density)
pins: 1 NC, 2 LEFT IN (in), 3 SD (in), 4 HP-IN (in), 5 GND (power), 6 RIGHT IN (in), 7 NC, 8 NC, 9 RIGHT OUT (out), 10 BYPASS, 11 BTL OUT+ (out), 12 VDD (power), 13 LEFT OUT/BTL OUT- (out), 14 NC

## LM4851ITL
designator U?
Integrated Audio Amplifier System; PartNumber: LM4851ITL; Manufacturer: National Semiconductor; CompType: Audio IC; PackageTopMarking: XYVG*I B1; Published: 4-Dec-2008; DatasheetVersion: Dec-2002; PackageVersion: revD, Jan-2005; PackageReference: TLA18AAA; PackageDescription: Thin Micro SMD, 18 Bump (Large), 0.5mm Pitch; RoHS: Y; PinCount: 18; DigiKeyPartNumber: LM4851ITLCT-ND; ComponentLink1Description: LM4851 Datasheet; ComponentLink1URL: http://www.national.com/ds/LM/LM4851.pdf; ComponentLink2Description: LM4851 Web Page; ComponentLink2URL: http://www.national.com/pf/LM/LM4851.html; ComponentLink3Description: TLA18AAA Package Page; ComponentLink3URL: http://www.national.com/packaging/folders/tla18aaa.html
footprint TLA18AAA (Micro SMD, 18-Leads, Body 2.23x2.0mm, Pitch 0.5mm, NSC Recommended)
pins: A1 BYPASS, A3 PHONE IN (in), A5 RIN (in), A7 ROUT- (out), B2 SPKROUT+ (out), B4 LIN (in), B6 ROUT+ (out), C1 GND (power), C3 VDD (power), C5 VDD (power), C7 GND (power), D2 SPKROUT- (out), D4 NC, D6 LOUT+ (out), E1 CLK (in), E3 ENB (in), E5 DATA (in), E7 LOUT- (out)

## LM4851LQ
designator U?
Integrated Audio Amplifier System; PartNumber: LM4851LQ; Manufacturer: National Semiconductor; CompType: Audio IC; PackageTopMarking: NS*UZXYTT*L4851LQ; Published: 4-Dec-2008; DatasheetVersion: Dec-2002; PackageVersion: revB, Sep-2003; PackageReference: LQA24A; PackageDescription: LLP, Plastic, Quad, 5 x 4 x 0.8mm Body, 24 Lead, 0.5mm Pitch; RoHS: Y; PinCount: 24; DigiKeyPartNumber: LM4851LQCT-ND; ComponentLink1Description: LM4851 Datasheet; ComponentLink1URL: http://www.national.com/ds/LM/LM4851.pdf; ComponentLink2Description: LM4851 Web Page; ComponentLink2URL: http://www.national.com/pf/LM/LM4851.html; ComponentLink3Description: LQA24A Package Page; ComponentLink3URL: http://www.national.com/packaging/folders/lqa24a.html
footprint LQA24A (PQFN, 24-Leads, Body 4x5mm, Pitch 0.5mm, NSC Recommended)
pins: 1 ROUT- (out), 2 ROUT+ (out), 3 NC, 4 GND (power), 5 VDD (power), 6 LOUT+ (out), 7 LOUT- (out), 8 NC, 9 DATA (in), 10 ENB (in), 11 CLK (in), 12 NC, 13 NC, 14 SPKROUT- (out), 15 VDD (power), 16 GND (power), 17 SPKROUT+ (out), 18 BYPASS, 19 NC, 20 NC, 21 PHONE IN (in), 22 LIN (in), 23 RIN (in), 24 NC, 25 DAP (power)

## LM4852ITL
designator U?
Integrated Audio Amplifier System; PartNumber: LM4852ITL; Manufacturer: National Semiconductor; CompType: Audio IC; PackageTopMarking: XYVG*I B8; Published: 4-Dec-2008; DatasheetVersion: May-2004; PackageVersion: revD, Jan-2005; PackageReference: TLA18AAA; PackageDescription: Thin Micro SMD, 18 Bump (Large), 0.5mm Pitch; RoHS: Y; PinCount: 18; DigiKeyPartNumber: LM4852ITL-ND; ComponentLink1Description: LM4852 Datasheet; ComponentLink1URL: http://www.national.com/ds/LM/LM4852.pdf; ComponentLink2Description: LM4852 Web Page; ComponentLink2URL: http://www.national.com/pf/LM/LM4852.html; ComponentLink3Description: TLA18AAA Package Page; ComponentLink3URL: http://www.national.com/packaging/folders/tla18aaa.html
footprint TLA18AAA (Micro SMD, 18-Leads, Body 2.23x2.0mm, Pitch 0.5mm, NSC Recommended)
pins: A1 BYPASS, A3 PHONE IN (in), A5 RIN (in), A7 NC, B2 SPKROUT+ (out), B4 LIN (in), B6 ROUT+ (out), C1 GND (power), C3 VDD (power), C5 VDD (power), C7 GND (power), D2 SPKROUT- (out), D4 NC, D6 LOUT+ (out), E1 ADR (in), E3 SCL (in), E5 SDA (io), E7 NC

## LM4852LQ
designator U?
Integrated Audio Amplifier System; PartNumber: LM4852LQ; Manufacturer: National Semiconductor; CompType: Audio IC; PackageTopMarking: NS*UZXYTT*L4852LQ; Published: 4-Dec-2008; DatasheetVersion: May-2004; PackageVersion: revB, Sep-2003; PackageReference: LQA24A; PackageDescription: LLP, Plastic, Quad, 5 x 4 x 0.8mm Body, 24 Lead, 0.5mm Pitch; RoHS: Y; PinCount: 24; DigiKeyPartNumber: LM4852LQCT-ND; ComponentLink1Description: LM4852 Datasheet; ComponentLink1URL: http://www.national.com/ds/LM/LM4852.pdf; ComponentLink2Description: LM4852 Web Page; ComponentLink2URL: http://www.national.com/pf/LM/LM4852.html; ComponentLink3Description: LQA24A Package Page; ComponentLink3URL: http://www.national.com/packaging/folders/lqa24a.html
footprint LQA24A (PQFN, 24-Leads, Body 4x5mm, Pitch 0.5mm, NSC Recommended)
pins: 1 NC, 2 ROUT (out), 3 NC, 4 GND (power), 5 VDD (power), 6 LOUT (out), 7 NC, 8 SDA (io), 9 NC, 10 SCL (in), 11 NC, 12 ADR (in), 13 NC, 14 SPKROUT- (out), 15 VDD (power), 16 GND (power), 17 SPKROUT+ (out), 18 BYPASS, 19 NC, 20 NC, 21 PHONE IN (in), 22 LIN (in), 23 RIN (in), 24 NC, 25 DAP (power)

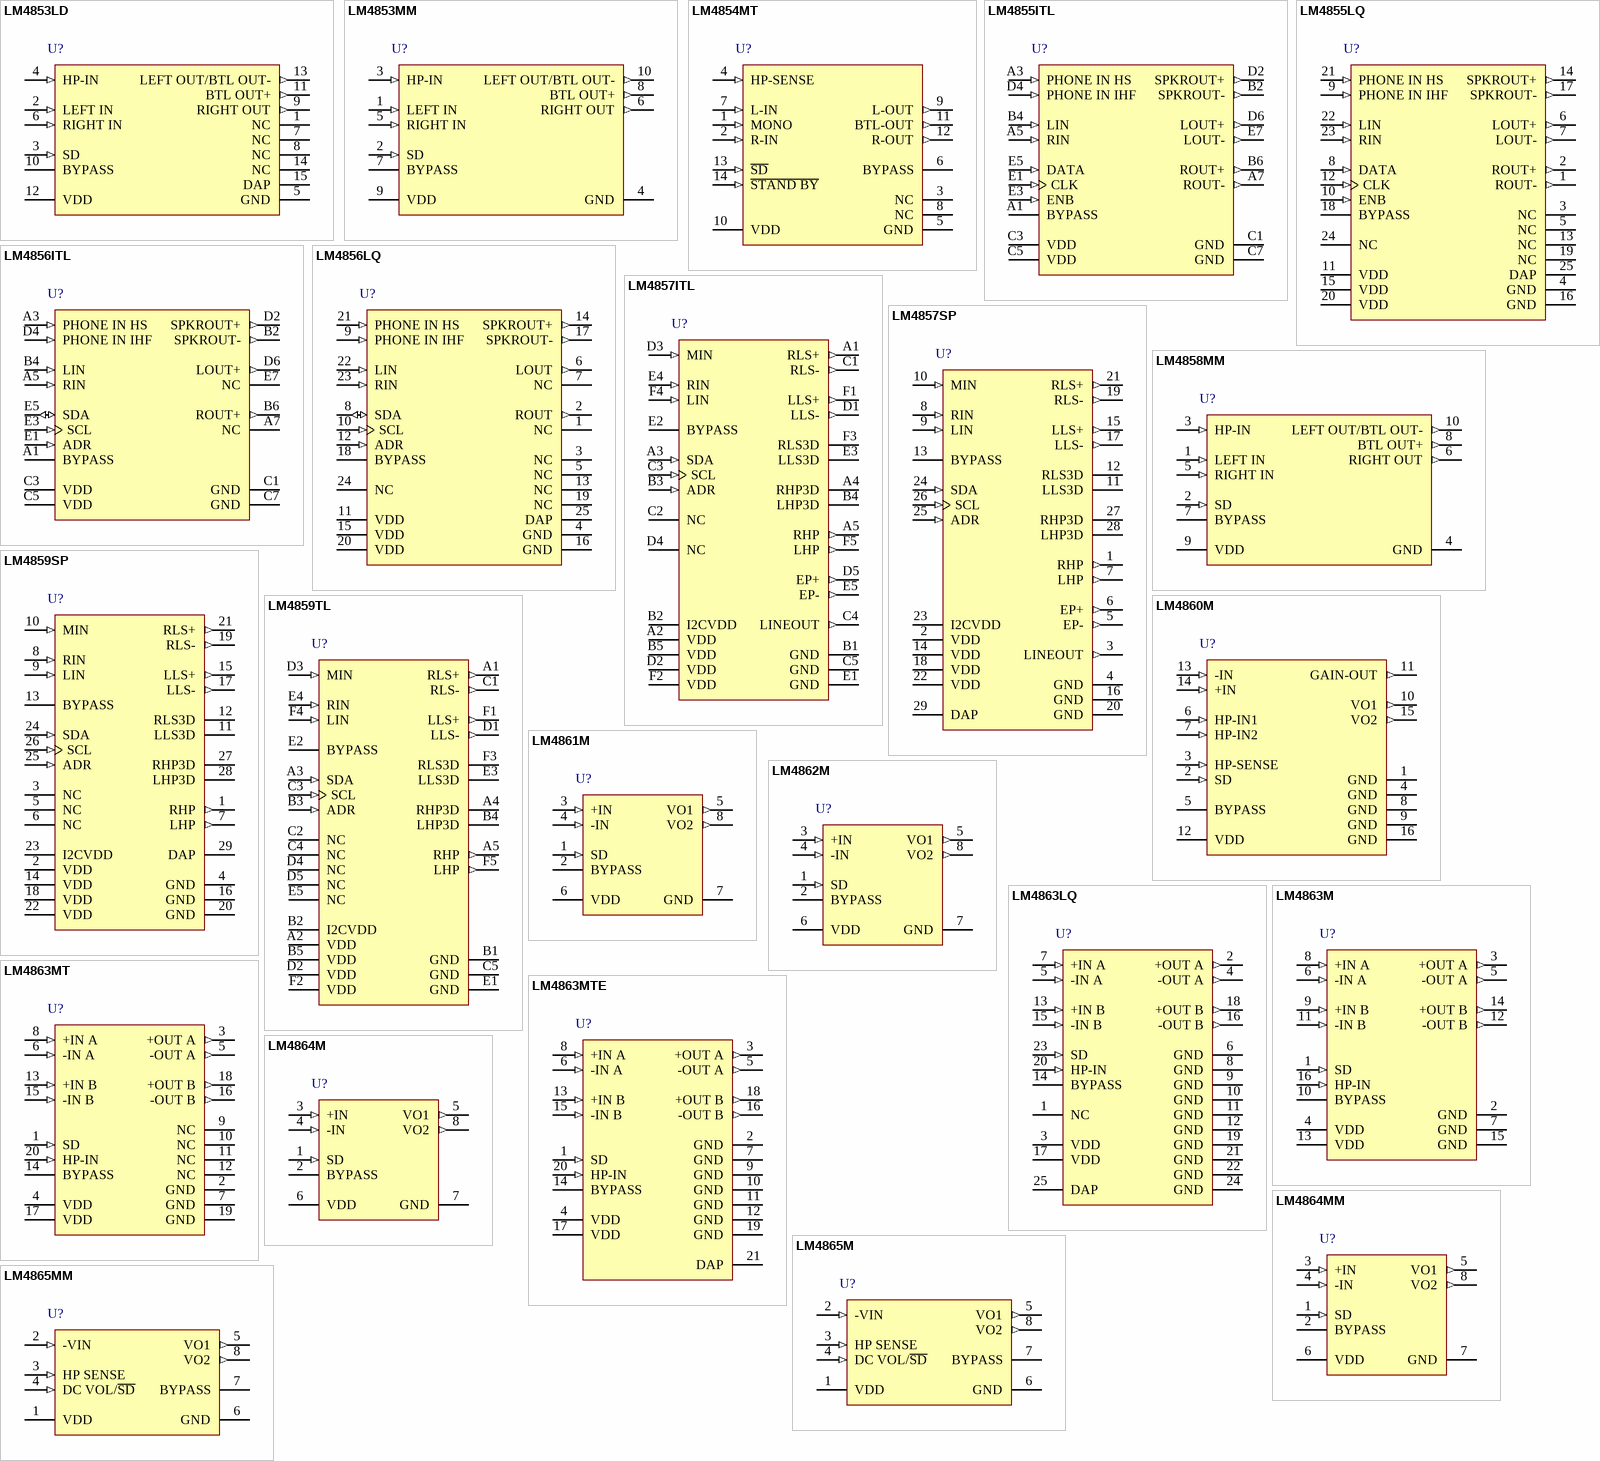
[diagram p5: symbols LM4853LD to LM4865MM]

## LM4853LD
designator U?
Mono 1.5 W / Stereo 300mW Power Amplifier; PartNumber: LM4853LD; Manufacturer: National Semiconductor; CompType: Audio IC; PackageTopMarking: NS*UZXYTT*L4853LD; Published: 4-Dec-2008; DatasheetVersion: Jan-2003; PackageVersion: revA, Aug-2000; PackageReference: LDA14A; PackageDescription: LLP, Plastic, Dual, 4 x 4 x 0.75mm Body, 14 Lead, 0.5mm Pitch; RoHS: Y; PinCount: 14; DigiKeyPartNumber: LM4853LDCT-ND; ComponentLink1Description: LM4853 Datasheet; ComponentLink1URL: http://www.national.com/ds/LM/LM4853.pdf; ComponentLink2Description: LM4853 Web Page; ComponentLink2URL: http://www.national.com/pf/LM/LM4853.html; ComponentLink3Description: LDA14A Package Page; ComponentLink3URL: http://www.national.com/packaging/folders/lda14a.html
footprint LDA14A (PSON, 14-Leads, Body 4x4mm, Pitch 0.5mm, NSC Recommended)
pins: 1 NC, 2 LEFT IN (in), 3 SD (in), 4 HP-IN (in), 5 GND (power), 6 RIGHT IN (in), 7 NC, 8 NC, 9 RIGHT OUT (out), 10 BYPASS, 11 BTL OUT+ (out), 12 VDD (power), 13 LEFT OUT/BTL OUT- (out), 14 NC, 15 DAP (power)

## LM4853MM
designator U?
Mono 1.5 W / Stereo 300mW Power Amplifier; PartNumber: LM4853MM; Manufacturer: National Semiconductor; CompType: Audio IC; PackageTopMarking: ZXTT*G53; Published: 4-Dec-2008; DatasheetVersion: Jan-2003; PackageVersion: revB, Jul-2003; PackageReference: MUB10A; PackageDescription: Mini-SO, Molded, .118 x .118 x .034in Body, 10 Lead, .0197in Pitch; RoHS: Y; PinCount: 10; DigiKeyPartNumber: LM4853MMCT-ND; Code_JEDEC: MO-187-BA; ComponentLink1Description: LM4853 Datasheet; ComponentLink1URL: http://www.national.com/ds/LM/LM4853.pdf; ComponentLink2Description: LM4853 Web Page; ComponentLink2URL: http://www.national.com/pf/LM/LM4853.html; ComponentLink3Description: MUB10A Package Page; ComponentLink3URL: http://www.national.com/packaging/folders/mub10a.html
footprint MUB10A_N (TSSOP, 10-Leads, Body 3x3mm, Pitch 0.5mm, IPC Medium Density)
footprint MUB10A_L (TSSOP, 10-Leads, Body 3x3mm, Pitch 0.5mm, IPC High Density)
footprint MUB10A_M (TSSOP, 10-Leads, Body 3x3mm, Pitch 0.5mm, IPC Low Density)
pins: 1 LEFT IN (in), 2 SD (in), 3 HP-IN (in), 4 GND (power), 5 RIGHT IN (in), 6 RIGHT OUT (out), 7 BYPASS, 8 BTL OUT+ (out), 9 VDD (power), 10 LEFT OUT/BTL OUT- (out)

## LM4854MT
designator U?
1.9W Monaural, 85mW Stereo Headphone Audio Amplifier; PartNumber: LM4854MT; Manufacturer: National Semiconductor; CompType: Audio IC; PackageTopMarking: NSZXYTT*L4854*MT; Published: 4-Dec-2008; DatasheetVersion: Apr-2003; PackageVersion: revD, Jun-2003; PackageReference: MTC14; PackageDescription: Molded TSSOP, JEDEC, 5 x 4.4 x 0.9mm Body, 14 Lead, 0.65mm Pitch; RoHS: Y; PinCount: 14; DigiKeyPartNumber: LM4854MT-ND; Code_JEDEC: MO-153-AB-1; ComponentLink1Description: LM4854 Datasheet; ComponentLink1URL: http://www.national.com/ds/LM/LM4854.pdf; ComponentLink2Description: LM4854 Web Page; ComponentLink2URL: http://www.national.com/pf/LM/LM4854.html; ComponentLink3Description: MTC14 Package Page; ComponentLink3URL: http://www.national.com/packaging/folders/mtc14.html
footprint MTC14_N (TSOP, 14-Leads, Body 5x4.4mm, Pitch 0.65mm, IPC Medium Density)
footprint MTC14_L (TSOP, 14-Leads, Body 5x4.4mm, Pitch 0.65mm, IPC High Density)
footprint MTC14_M (TSOP, 14-Leads, Body 5x4.4mm, Pitch 0.65mm, IPC Low Density)
pins: 1 MONO (in), 2 R-IN (in), 3 NC, 4 HP-SENSE (in), 5 GND (power), 6 BYPASS, 7 L-IN (in), 8 NC, 9 L-OUT (out), 10 VDD (power), 11 BTL-OUT (out), 12 R-OUT (out), 13 ~{SD} (in), 14 ~{STAND BY} (in)

## LM4855ITL
designator U?
Integrated Audio Amplifier System; PartNumber: LM4855ITL; Manufacturer: National Semiconductor; CompType: Audio IC; PackageTopMarking: XYVG*I A9; Published: 4-Dec-2008; DatasheetVersion: Nov-2002; PackageVersion: revD, Jan-2005; PackageReference: TLA18AAA; PackageDescription: Thin Micro SMD, 18 Bump (Large), 0.5mm Pitch; RoHS: Y; PinCount: 18; DigiKeyPartNumber: LM4855ITLCT-ND; ComponentLink1Description: LM4855 Datasheet; ComponentLink1URL: http://www.national.com/ds/LM/LM4855.pdf; ComponentLink2Description: LM4855 Web Page; ComponentLink2URL: http://www.national.com/pf/LM/LM4855.html; ComponentLink3Description: TLA18AAA Package Page; ComponentLink3URL: http://www.national.com/packaging/folders/tla18aaa.html
footprint TLA18AAA (Micro SMD, 18-Leads, Body 2.23x2.0mm, Pitch 0.5mm, NSC Recommended)
pins: A1 BYPASS, A3 PHONE IN HS (in), A5 RIN (in), A7 ROUT- (out), B2 SPKROUT- (out), B4 LIN (in), B6 ROUT+ (out), C1 GND (power), C3 VDD (power), C5 VDD (power), C7 GND (power), D2 SPKROUT+ (out), D4 PHONE IN IHF (in), D6 LOUT+ (out), E1 CLK (in), E3 ENB (in), E5 DATA (in), E7 LOUT- (out)

## LM4855LQ
designator U?
Integrated Audio Amplifier System; PartNumber: LM4855LQ; Manufacturer: National Semiconductor; CompType: Audio IC; PackageTopMarking: NS*UZXYTT*L4855LQ; Published: 4-Dec-2008; DatasheetVersion: Nov-2002; PackageVersion: revB, Sep-2003; PackageReference: LQA24A; PackageDescription: LLP, Plastic, Quad, 5 x 4 x 0.8mm Body, 24 Lead, 0.5mm Pitch; RoHS: Y; PinCount: 24; DigiKeyPartNumber: LM4855LQCT-ND; ComponentLink1Description: LM4855 Datasheet; ComponentLink1URL: http://www.national.com/ds/LM/LM4855.pdf; ComponentLink2Description: LM4855 Web Page; ComponentLink2URL: http://www.national.com/pf/LM/LM4855.html; ComponentLink3Description: LQA24A Package Page; ComponentLink3URL: http://www.national.com/packaging/folders/lqa24a.html
footprint LQA24A (PQFN, 24-Leads, Body 4x5mm, Pitch 0.5mm, NSC Recommended)
pins: 1 ROUT- (out), 2 ROUT+ (out), 3 NC, 4 GND (power), 5 NC, 6 LOUT+ (out), 7 LOUT- (out), 8 DATA (in), 9 PHONE IN IHF (in), 10 ENB (in), 11 VDD (power), 12 CLK (in), 13 NC, 14 SPKROUT+ (out), 15 VDD (power), 16 GND (power), 17 SPKROUT- (out), 18 BYPASS, 19 NC, 20 VDD (power), 21 PHONE IN HS (in), 22 LIN (in), 23 RIN (in), 24 NC, 25 DAP (power)

## LM4856ITL
designator U?
Integrated Audio Amplifier System; PartNumber: LM4856ITL; Manufacturer: National Semiconductor; CompType: Audio IC; PackageTopMarking: XYVG*I B7; Published: 4-Dec-2008; DatasheetVersion: May-2004; PackageVersion: revD, Jan-2005; PackageReference: TLA18AAA; PackageDescription: Thin Micro SMD, 18 Bump (Large), 0.5mm Pitch; RoHS: Y; PinCount: 18; DigiKeyPartNumber: LM4856ITL-ND; ComponentLink1Description: LM4856 Datasheet; ComponentLink1URL: http://www.national.com/ds/LM/LM4856.pdf; ComponentLink2Description: LM4856 Web Page; ComponentLink2URL: http://www.national.com/pf/LM/LM4856.html; ComponentLink3Description: TLA18AAA Package Page; ComponentLink3URL: http://www.national.com/packaging/folders/tla18aaa.html
footprint TLA18AAA (Micro SMD, 18-Leads, Body 2.23x2.0mm, Pitch 0.5mm, NSC Recommended)
pins: A1 BYPASS, A3 PHONE IN HS (in), A5 RIN (in), A7 NC, B2 SPKROUT- (out), B4 LIN (in), B6 ROUT+ (out), C1 GND (power), C3 VDD (power), C5 VDD (power), C7 GND (power), D2 SPKROUT+ (out), D4 PHONE IN IHF (in), D6 LOUT+ (out), E1 ADR (in), E3 SCL (in), E5 SDA (io), E7 NC

## LM4856LQ
designator U?
Integrated Audio Amplifier System; PartNumber: LM4856LQ; Manufacturer: National Semiconductor; CompType: Audio IC; PackageTopMarking: NS*UZXYTT*L4856LQ; Published: 4-Dec-2008; DatasheetVersion: May-2004; PackageVersion: revB, Sep-2003; PackageReference: LQA24A; PackageDescription: LLP, Plastic, Quad, 5 x 4 x 0.8mm Body, 24 Lead, 0.5mm Pitch; RoHS: Y; PinCount: 24; DigiKeyPartNumber: LM4856LQCT-ND; ComponentLink1Description: LM4856 Datasheet; ComponentLink1URL: http://www.national.com/ds/LM/LM4856.pdf; ComponentLink2Description: LM4856 Web Page; ComponentLink2URL: http://www.national.com/pf/LM/LM4856.html; ComponentLink3Description: LQA24A Package Page; ComponentLink3URL: http://www.national.com/packaging/folders/lqa24a.html
footprint LQA24A (PQFN, 24-Leads, Body 4x5mm, Pitch 0.5mm, NSC Recommended)
pins: 1 NC, 2 ROUT (out), 3 NC, 4 GND (power), 5 NC, 6 LOUT (out), 7 NC, 8 SDA (io), 9 PHONE IN IHF (in), 10 SCL (in), 11 VDD (power), 12 ADR (in), 13 NC, 14 SPKROUT+ (out), 15 VDD (power), 16 GND (power), 17 SPKROUT- (out), 18 BYPASS, 19 NC, 20 VDD (power), 21 PHONE IN HS (in), 22 LIN (in), 23 RIN (in), 24 NC, 25 DAP (power)

## LM4857ITL
designator U?
Stereo 1.2W Audio Sub-system with 3D Enhancement; PartNumber: LM4857ITL; Manufacturer: National Semiconductor; CompType: Audio IC; PackageTopMarking: XVG*I C2; Published: 4-Dec-2008; DatasheetVersion: Jun-2005; PackageVersion: revC, Dec-2003; PackageReference: TLA30CZA; PackageDescription: Thin Micro SMD, 30 Bump (Large), 0.5mm Pitch; RoHS: Y; PinCount: 30; DigiKeyPartNumber: LM4857ITL-ND; Code_JEDEC: MO-211-DJ; ComponentLink1Description: LM4857 Datasheet; ComponentLink1URL: http://www.national.com/ds/LM/LM4857.pdf; ComponentLink2Description: LM4857 Web Page; ComponentLink2URL: http://www.national.com/pf/LM/LM4857.html; ComponentLink3Description: TLA30CZA Package Page; ComponentLink3URL: http://www.national.com/packaging/folders/tla30cza.html
footprint TLA30CZA (Micro SMD, 30-Leads, Body 2.95x2.55mm, Pitch 0.5mm, NSC Recommended)
pins: A1 RLS+ (out), A2 VDD (power), A3 SDA (in), A4 RHP3D, A5 RHP (out), B1 GND (power), B2 I2CVDD (power), B3 ADR (in), B4 LHP3D, B5 VDD (power), C1 RLS- (out), C2 NC, C3 SCL (in), C4 LINEOUT (out), C5 GND (power), D1 LLS- (out), D2 VDD (power), D3 MIN (in), D4 NC, D5 EP+ (out), E1 GND (power), E2 BYPASS, E3 LLS3D, E4 RIN (in), E5 EP- (out), F1 LLS+ (out), F2 VDD (power), F3 RLS3D, F4 LIN (in), F5 LHP (out)

## LM4857SP
designator U?
Stereo 1.2W Audio Sub-system with 3D Enhancement; PartNumber: LM4857SP; Manufacturer: National Semiconductor; CompType: Audio IC; PackageTopMarking: NS*UZXYTT*L4857SP; Published: 4-Dec-2008; DatasheetVersion: Jun-2005; PackageVersion: revA, Aug-2003; PackageReference: SPA28A; PackageDescription: LLP, Plastic, Quad, 5 x 5 x 0.6mm Body, 28 Lead, 0.5mm Pitch, No Pullback; RoHS: Y; PinCount: 28; DigiKeyPartNumber: LM4857SPCT-ND; Code_JEDEC: MO-220-WHHD-3; ComponentLink1Description: LM4857 Datasheet; ComponentLink1URL: http://www.national.com/ds/LM/LM4857.pdf; ComponentLink2Description: LM4857 Web Page; ComponentLink2URL: http://www.national.com/pf/LM/LM4857.html; ComponentLink3Description: SPA28A Package Page; ComponentLink3URL: http://www.national.com/packaging/folders/spa28a.html
footprint SPA28A (QFN, 28-Leads, Body 5x5mm, Pitch 0.5mm, NSC Recommended)
pins: 1 RHP (out), 2 VDD (power), 3 LINEOUT (out), 4 GND (power), 5 EP- (out), 6 EP+ (out), 7 LHP (out), 8 RIN (in), 9 LIN (in), 10 MIN (in), 11 LLS3D, 12 RLS3D, 13 BYPASS, 14 VDD (power), 15 LLS+ (out), 16 GND (power), 17 LLS- (out), 18 VDD (power), 19 RLS- (out), 20 GND (power), 21 RLS+ (out), 22 VDD (power), 23 I2CVDD (power), 24 SDA (in), 25 ADR (in), 26 SCL (in), 27 RHP3D, 28 LHP3D, 29 DAP (power)

## LM4858MM
designator U?
Mono 1.5 W / Stereo 300mW Power Amplifier; PartNumber: LM4858MM; Manufacturer: National Semiconductor; CompType: Audio IC; PackageTopMarking: ZXTT*GB1; Published: 4-Dec-2008; DatasheetVersion: May-2003; PackageVersion: revB, Jul-2003; PackageReference: MUB10A; PackageDescription: Mini-SO, Molded, .118 x .118 x .034in Body, 10 Lead, .0197in Pitch; RoHS: Y; PinCount: 10; DigiKeyPartNumber: LM4858MM-ND; Code_JEDEC: MO-187-BA; ComponentLink1Description: LM4858 Datasheet; ComponentLink1URL: http://www.national.com/ds/LM/LM4858.pdf; ComponentLink2Description: LM4858 Web Page; ComponentLink2URL: http://www.national.com/pf/LM/LM4858.html; ComponentLink3Description: MUB10A Package Page; ComponentLink3URL: http://www.national.com/packaging/folders/mub10a.html
footprint MUB10A_N (TSSOP, 10-Leads, Body 3x3mm, Pitch 0.5mm, IPC Medium Density)
footprint MUB10A_L (TSSOP, 10-Leads, Body 3x3mm, Pitch 0.5mm, IPC High Density)
footprint MUB10A_M (TSSOP, 10-Leads, Body 3x3mm, Pitch 0.5mm, IPC Low Density)
pins: 1 LEFT IN (in), 2 SD (in), 3 HP-IN (in), 4 GND (power), 5 RIGHT IN (in), 6 RIGHT OUT (out), 7 BYPASS, 8 BTL OUT+ (out), 9 VDD (power), 10 LEFT OUT/BTL OUT- (out)